# EAGLE library part ADXL330 (library harrison)
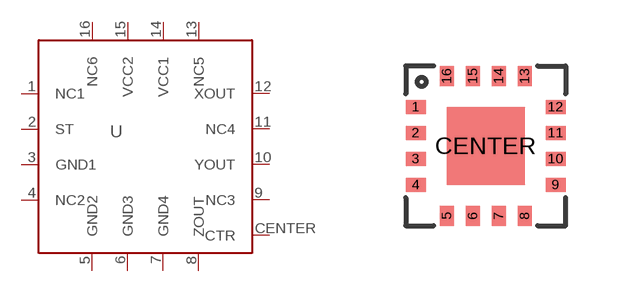
[diagram p32: symbol with the pads of ADXL330; footprint ADXL330]

Designator prefix U

## ADXL330  [ADXL330]
1  NC1
2  ST
3  GND1
4  NC2
5  GND2
6  GND3
7  GND4
8  ZOUT
9  NC3
10  YOUT
11  NC4
12  XOUT
13  NC5
14  VCC1
15  VCC2
16  NC6
CENTER  CTR

## Footprint ADXL330 (pad centres in mm)
smd 0.5 x 0.35: 1 -1.75,0.975; 2 -1.75,0.325; 3 -1.75,-0.325; 4 -1.75,-0.975; 9 1.75,-0.975; 10 1.75,-0.325; 11 1.75,0.325; 12 1.75,0.975
smd 0.35 x 0.5: 5 -0.975,-1.75; 6 -0.325,-1.75; 7 0.325,-1.75; 8 0.975,-1.75; 13 0.975,1.75; 14 0.325,1.75; 15 -0.325,1.75; 16 -0.975,1.75
smd 1.95 x 1.95: CENTER 0,0